# EAGLE library part 6809E-ISOLATED-VCC-GND (library TheLittleEngineers_org-CC3-SpeedBump-V1R1-03-30-1987)
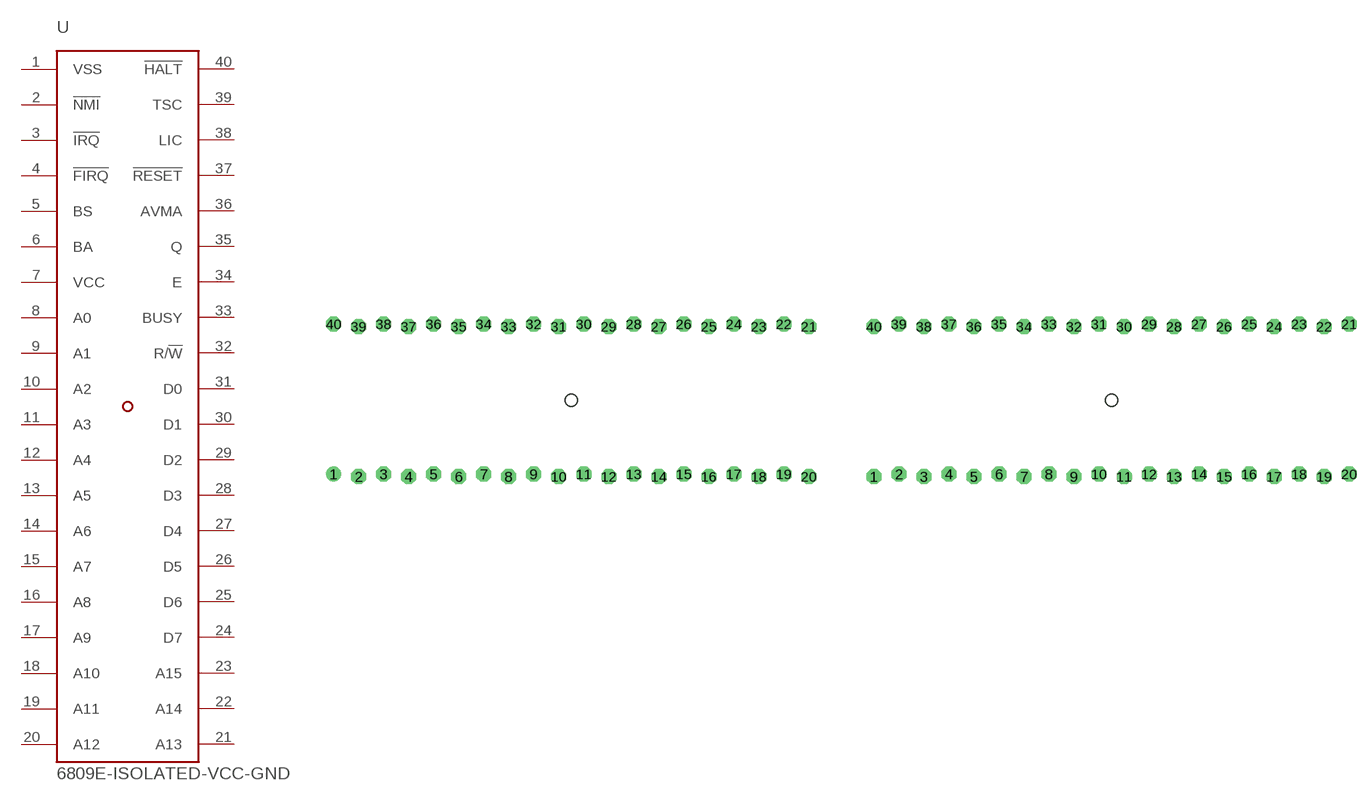
[diagram p0: symbol with the pads of MISCELLANEOUS-STAGGERED-PINS-1; footprints MISCELLANEOUS-STAGGERED-PINS-1, MISCELLANEOUS-STAGGERED-PINS-2]

Designator prefix U

## 6809E-ISOLATED-VCC-GND-NT-MSP1  [MISCELLANEOUS-STAGGERED-PINS-1]
1  VSS  pwr
2  !NMI  in
3  !IRQ  in
4  !FIRQ  in
5  BS  out
6  BA  out
7  VCC  pwr
8  A0  out
9  A1  out
10  A2  out
11  A3  out
12  A4  out
13  A5  out
14  A6  out
15  A7  out
16  A8  out
17  A9
18  A10  out
19  A11  out
20  A12  out
21  A13  out
22  A14  out
23  A15  out
24  D7
25  D6
26  D5
27  D4
28  D3
29  D2
30  D1
31  D0
32  R/!W  out
33  BUSY  out
34  E  in
35  Q  in
36  AVMA  out
37  !RESET  in
38  LIC  out
39  TSC  in
40  !HALT  in

## 6809E-ISOLATED-VCC-GND-NT-MSP2  [MISCELLANEOUS-STAGGERED-PINS-2]
Pads as for MISCELLANEOUS-STAGGERED-PINS-1

## 6809E-ISOLATED-VCC-GND-NT-MSPL20  [DIL40-6-MACHINED-SOCKET-PINS-LAYER20OUTLINE]
Pads as for MISCELLANEOUS-STAGGERED-PINS-1

## 6809E-ISOLATED-VCC-GND-NT-RHPS1  [DIL40-6-ROUND-HEADER-PINS-STAGGERED-1]
Pads as for MISCELLANEOUS-STAGGERED-PINS-1

## Footprint MISCELLANEOUS-STAGGERED-PINS-1 (pad centres in mm)
drill 1.016 round: 1 -24.13,-7.493
drill 1.016 octagon: 2 -21.59,-7.747; 3 -19.05,-7.493; 4 -16.51,-7.747; 5 -13.97,-7.493; 6 -11.43,-7.747; 7 -8.89,-7.493; 8 -6.35,-7.747; 9 -3.81,-7.493; 10 -1.27,-7.747; 11 1.27,-7.493; 12 3.81,-7.747; 13 6.35,-7.493; 14 8.89,-7.747; 15 11.43,-7.493; 16 13.97,-7.747; 17 16.51,-7.493; 18 19.05,-7.747; 19 21.59,-7.493; 20 24.13,-7.747; 21 24.13,7.493; 22 21.59,7.747; 23 19.05,7.493; 24 16.51,7.747; 25 13.97,7.493; 26 11.43,7.747; 27 8.89,7.493; 28 6.35,7.747; 29 3.81,7.493; 30 1.27,7.747; 31 -1.27,7.493; 32 -3.81,7.747; 33 -6.35,7.493; 34 -8.89,7.747; 35 -11.43,7.493; 36 -13.97,7.747; 37 -16.51,7.493; 38 -19.05,7.747; 39 -21.59,7.493; 40 -24.13,7.747

## Footprint MISCELLANEOUS-STAGGERED-PINS-2 (pad centres in mm)
drill 1.016 octagon: 1 -24.13,-7.747; 2 -21.59,-7.493; 3 -19.05,-7.747; 4 -16.51,-7.493; 5 -13.97,-7.747; 6 -11.43,-7.493; 7 -8.89,-7.747; 8 -6.35,-7.493; 9 -3.81,-7.747; 10 -1.27,-7.493; 11 1.27,-7.747; 12 3.81,-7.493; 13 6.35,-7.747; 14 8.89,-7.493; 15 11.43,-7.747; 16 13.97,-7.493; 17 16.51,-7.747; 18 19.05,-7.493; 19 21.59,-7.747; 20 24.13,-7.493; 21 24.13,7.747; 22 21.59,7.493; 23 19.05,7.747; 24 16.51,7.493; 25 13.97,7.747; 26 11.43,7.493; 27 8.89,7.747; 28 6.35,7.493; 29 3.81,7.747; 30 1.27,7.493; 31 -1.27,7.747; 32 -3.81,7.493; 33 -6.35,7.747; 34 -8.89,7.493; 35 -11.43,7.747; 36 -13.97,7.493; 37 -16.51,7.747; 38 -19.05,7.493; 39 -21.59,7.747; 40 -24.13,7.493

## Footprint DIL40-6-MACHINED-SOCKET-PINS-LAYER20OUTLINE (pad centres in mm)
drill 1.5 round: 1 -24.13,-7.62
drill 1.5 octagon: 2 -21.59,-7.62; 3 -19.05,-7.62; 4 -16.51,-7.62; 5 -13.97,-7.62; 6 -11.43,-7.62; 7 -8.89,-7.62; 8 -6.35,-7.62; 9 -3.81,-7.62; 10 -1.27,-7.62; 11 1.27,-7.62; 12 3.81,-7.62; 13 6.35,-7.62; 14 8.89,-7.62; 15 11.43,-7.62; 16 13.97,-7.62; 17 16.51,-7.62; 18 19.05,-7.62; 19 21.59,-7.62; 20 24.13,-7.62; 21 24.13,7.62; 22 21.59,7.62; 23 19.05,7.62; 24 16.51,7.62; 25 13.97,7.62; 26 11.43,7.62; 27 8.89,7.62; 28 6.35,7.62; 29 3.81,7.62; 30 1.27,7.62; 31 -1.27,7.62; 32 -3.81,7.62; 33 -6.35,7.62; 34 -8.89,7.62; 35 -11.43,7.62; 36 -13.97,7.62; 37 -16.51,7.62; 38 -19.05,7.62; 39 -21.59,7.62; 40 -24.13,7.62

## Footprint DIL40-6-ROUND-HEADER-PINS-STAGGERED-1 (pad centres in mm)
drill 0.9 round: 1 -24.13,-7.493
drill 0.9 octagon: 2 -21.59,-7.747; 3 -19.05,-7.493; 4 -16.51,-7.747; 5 -13.97,-7.493; 6 -11.43,-7.747; 7 -8.89,-7.493; 8 -6.35,-7.747; 9 -3.81,-7.493; 10 -1.27,-7.747; 11 1.27,-7.493; 12 3.81,-7.747; 13 6.35,-7.493; 14 8.89,-7.747; 15 11.43,-7.493; 16 13.97,-7.747; 17 16.51,-7.493; 18 19.05,-7.747; 19 21.59,-7.493; 20 24.13,-7.747; 21 24.13,7.493; 22 21.59,7.747; 23 19.05,7.493; 24 16.51,7.747; 25 13.97,7.493; 26 11.43,7.747; 27 8.89,7.493; 28 6.35,7.747; 29 3.81,7.493; 30 1.27,7.747; 31 -1.27,7.493; 32 -3.81,7.747; 33 -6.35,7.493; 34 -8.89,7.747; 35 -11.43,7.493; 36 -13.97,7.747; 37 -16.51,7.493; 38 -19.05,7.747; 39 -21.59,7.493; 40 -24.13,7.747